# Altium schematic symbol library Capacitor_pol.Schlib: 1 symbol
Pins are listed as number, name and electrical type; pins without a type are passive.

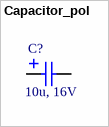
[diagram p0: symbol Capacitor_pol]

## Capacitor_pol
designator C?, comment 10u, 16V
Capacitor; Назначение: Конденсатор танталовый; Наименование: К53-68 «ВП»; Published: 8-Jun-2000; Revision: July-2002: Re-released for DXP Platform.; Publisher: Altium Limited; Value: 10u, 16V
footprint C_SMD_SIZE_B
pins: 1, 2